# EAGLE library part SN74LVC2T45-Q1 (library pepin)
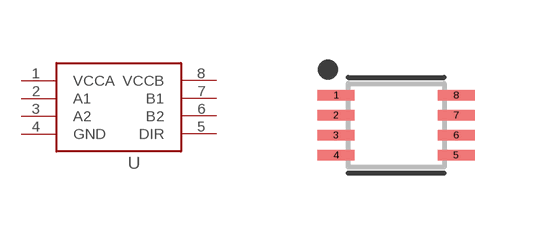
[diagram p18: symbol with the pads of SOP50P310X90-8N; footprint SOP50P310X90-8N]

Designator prefix U

## SN74LVC2T45-Q1VSSOP-8  [SOP50P310X90-8N]
1  VCCA  pwr
2  A1
3  A2
4  GND  pwr
5  DIR
6  B2
7  B1
8  VCCB  pwr

## Footprint SOP50P310X90-8N (pad centres in mm)
8-SOP, 0.50 mm pitch, 3.10 mm span, 2.00 X 2.30 X 0.90 mm body 8-pin SOP package with 0.50 mm pitch, 3.10 mm span with body size 2.00 X 2.30 X 0.90 mm
smd 0.923 x 0.268: 1 -1.503,0.75; 2 -1.503,0.25; 3 -1.503,-0.25; 4 -1.503,-0.75; 5 1.503,-0.75; 6 1.503,-0.25; 7 1.503,0.25; 8 1.503,0.75